# Altium schematic symbol library TAITIEN_TCXO_TX.Schlib: 1 symbol
Pins are listed as number, name and electrical type; pins without a type are passive.

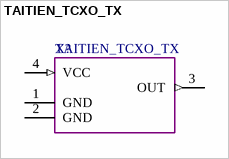
[diagram p0: symbol TAITIEN_TCXO_TX]

## TAITIEN_TCXO_TX
designator X?
pins: 1 GND (power), 2 GND (power), 3 OUT (out), 4 VCC (in)